# Altium integrated library ALTIUM-WE-PD-rev18b.IntLib: 278 symbols (part 3 of 4)
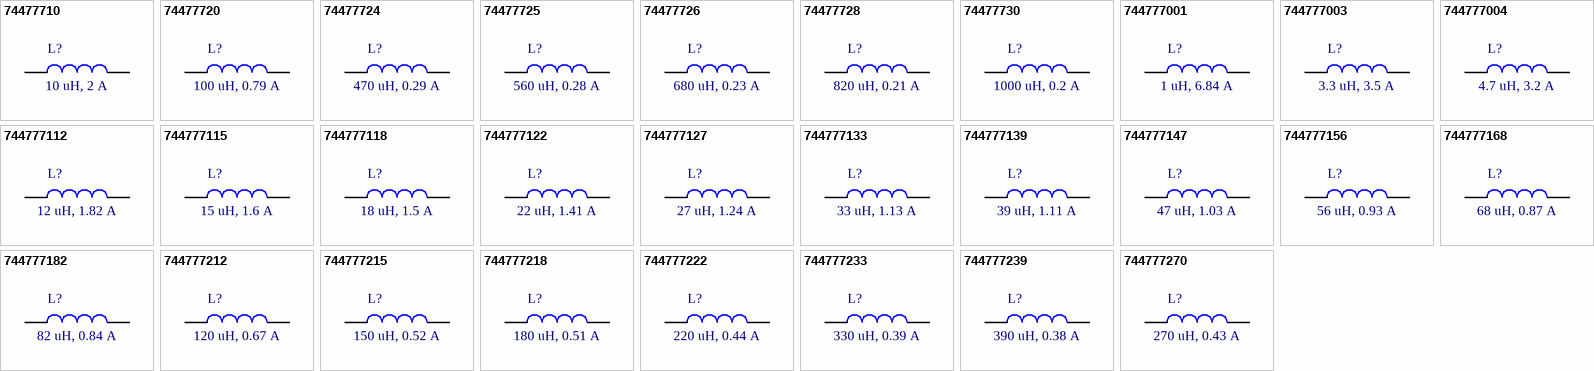
[diagram p15: symbols 74477710 to 744777270]

## 744777003
designator L?, comment 3.3 uH, 3.5 A
WE-PD SMT Shielded Power Inductor, size 7345, 3.3 uH, 3.5 A; Part Number: 744777003; Rated Current: 3.5 A; Inductance: 3.3 uH; DC Resistance max.: 0.03 Ohm; Self Resonant Frequency: 55 MHz; ComponentLink1Description: Manufacturer; ComponentLink1URL: http://www.we-online.de; ComponentLink2Description: Datasheet; ComponentLink2URL: https://katalog.we-online.de/pbs/datasheet/744777003.pdf; Published Date: September 2018; Publisher: Wurth Elektronik; Size: 7345; Operating Temperature: -40 to 125 degC; Mounting Technology: SMT; Packaging: Tape and Reel
footprint WE-PD_7345_Metal base
pins: 1, 2

## 744777004
designator L?, comment 4.7 uH, 3.2 A
WE-PD SMT Shielded Power Inductor, size 7345, 4.7 uH, 3.2 A; Part Number: 744777004; Rated Current: 3.2 A; Inductance: 4.7 uH; DC Resistance max.: 0.04 Ohm; Self Resonant Frequency: 37 MHz; ComponentLink1Description: Manufacturer; ComponentLink1URL: http://www.we-online.de; ComponentLink2Description: Datasheet; ComponentLink2URL: https://katalog.we-online.de/pbs/datasheet/744777004.pdf; Published Date: September 2018; Publisher: Wurth Elektronik; Size: 7345; Operating Temperature: -40 to 125 degC; Mounting Technology: SMT; Packaging: Tape and Reel
footprint WE-PD_7345_Metal base
pins: 1, 2

## 744777112
designator L?, comment 12 uH, 1.82 A
WE-PD SMT Shielded Power Inductor, size 7345, 12 uH, 1.82 A; Part Number: 744777112; Rated Current: 1.82 A; Inductance: 12 uH; DC Resistance max.: 0.058 Ohm; Self Resonant Frequency: 23 MHz; ComponentLink1Description: Manufacturer; ComponentLink1URL: http://www.we-online.de; ComponentLink2Description: Datasheet; ComponentLink2URL: https://katalog.we-online.de/pbs/datasheet/744777112.pdf; Published Date: September 2018; Publisher: Wurth Elektronik; Size: 7345; Operating Temperature: -40 to 125 degC; Mounting Technology: SMT; Packaging: Tape and Reel
footprint WE-PD_7345_Metal base
pins: 1, 2

## 744777115
designator L?, comment 15 uH, 1.6 A
WE-PD SMT Shielded Power Inductor, size 7345, 15 uH, 1.6 A; Part Number: 744777115; Rated Current: 1.6 A; Inductance: 15 uH; DC Resistance max.: 0.081 Ohm; Self Resonant Frequency: 19.5 MHz; ComponentLink1Description: Manufacturer; ComponentLink1URL: http://www.we-online.de; ComponentLink2Description: Datasheet; ComponentLink2URL: https://katalog.we-online.de/pbs/datasheet/744777115.pdf; Published Date: September 2018; Publisher: Wurth Elektronik; Size: 7345; Operating Temperature: -40 to 125 degC; Mounting Technology: SMT; Packaging: Tape and Reel
footprint WE-PD_7345_Metal base
pins: 1, 2

## 744777118
designator L?, comment 18 uH, 1.5 A
WE-PD SMT Shielded Power Inductor, size 7345, 18 uH, 1.5 A; Part Number: 744777118; Rated Current: 1.5 A; Inductance: 18 uH; DC Resistance max.: 0.091 Ohm; Self Resonant Frequency: 19 MHz; ComponentLink1Description: Manufacturer; ComponentLink1URL: http://www.we-online.de; ComponentLink2Description: Datasheet; ComponentLink2URL: https://katalog.we-online.de/pbs/datasheet/744777118.pdf; Published Date: September 2018; Publisher: Wurth Elektronik; Size: 7345; Operating Temperature: -40 to 125 degC; Mounting Technology: SMT; Packaging: Tape and Reel
footprint WE-PD_7345_Metal base
pins: 1, 2

## 744777122
designator L?, comment 22 uH, 1.41 A
WE-PD SMT Shielded Power Inductor, size 7345, 22 uH, 1.41 A; Part Number: 744777122; Rated Current: 1.41 A; Inductance: 22 uH; DC Resistance max.: 0.11 Ohm; Self Resonant Frequency: 17 MHz; ComponentLink1Description: Manufacturer; ComponentLink1URL: http://www.we-online.de; ComponentLink2Description: Datasheet; ComponentLink2URL: https://katalog.we-online.de/pbs/datasheet/744777122.pdf; Published Date: September 2018; Publisher: Wurth Elektronik; Size: 7345; Operating Temperature: -40 to 125 degC; Mounting Technology: SMT; Packaging: Tape and Reel
footprint WE-PD_7345_Metal base
pins: 1, 2

## 744777127
designator L?, comment 27 uH, 1.24 A
WE-PD SMT Shielded Power Inductor, size 7345, 27 uH, 1.24 A; Part Number: 744777127; Rated Current: 1.24 A; Inductance: 27 uH; DC Resistance max.: 0.15 Ohm; Self Resonant Frequency: 15 MHz; ComponentLink1Description: Manufacturer; ComponentLink1URL: http://www.we-online.de; ComponentLink2Description: Datasheet; ComponentLink2URL: https://katalog.we-online.de/pbs/datasheet/744777127.pdf; Published Date: September 2018; Publisher: Wurth Elektronik; Size: 7345; Operating Temperature: -40 to 125 degC; Mounting Technology: SMT; Packaging: Tape and Reel
footprint WE-PD_7345_Metal base
pins: 1, 2

## 744777133
designator L?, comment 33 uH, 1.13 A
WE-PD SMT Shielded Power Inductor, size 7345, 33 uH, 1.13 A; Part Number: 744777133; Rated Current: 1.13 A; Inductance: 33 uH; DC Resistance max.: 0.17 Ohm; Self Resonant Frequency: 13 MHz; ComponentLink1Description: Manufacturer; ComponentLink1URL: http://www.we-online.de; ComponentLink2Description: Datasheet; ComponentLink2URL: https://katalog.we-online.de/pbs/datasheet/744777133.pdf; Published Date: September 2018; Publisher: Wurth Elektronik; Size: 7345; Operating Temperature: -40 to 125 degC; Mounting Technology: SMT; Packaging: Tape and Reel
footprint WE-PD_7345_Metal base
pins: 1, 2

## 744777139
designator L?, comment 39 uH, 1.11 A
WE-PD SMT Shielded Power Inductor, size 7345, 39 uH, 1.11 A; Part Number: 744777139; Rated Current: 1.11 A; Inductance: 39 uH; DC Resistance max.: 0.23 Ohm; Self Resonant Frequency: 12 MHz; ComponentLink1Description: Manufacturer; ComponentLink1URL: http://www.we-online.de; ComponentLink2Description: Datasheet; ComponentLink2URL: https://katalog.we-online.de/pbs/datasheet/744777139.pdf; Published Date: September 2018; Publisher: Wurth Elektronik; Size: 7345; Operating Temperature: -40 to 125 degC; Mounting Technology: SMT; Packaging: Tape and Reel
footprint WE-PD_7345_Metal base
pins: 1, 2

## 744777147
designator L?, comment 47 uH, 1.03 A
WE-PD SMT Shielded Power Inductor, size 7345, 47 uH, 1.03 A; Part Number: 744777147; Rated Current: 1.03 A; Inductance: 47 uH; DC Resistance max.: 0.26 Ohm; Self Resonant Frequency: 10.5 MHz; ComponentLink1Description: Manufacturer; ComponentLink1URL: http://www.we-online.de; ComponentLink2Description: Datasheet; ComponentLink2URL: https://katalog.we-online.de/pbs/datasheet/744777147.pdf; Published Date: September 2018; Publisher: Wurth Elektronik; Size: 7345; Operating Temperature: -40 to 125 degC; Mounting Technology: SMT; Packaging: Tape and Reel
footprint WE-PD_7345_Metal base
pins: 1, 2

## 744777156
designator L?, comment 56 uH, 0.93 A
WE-PD SMT Shielded Power Inductor, size 7345, 56 uH, 0.93 A; Part Number: 744777156; Rated Current: 0.93 A; Inductance: 56 uH; DC Resistance max.: 0.35 Ohm; Self Resonant Frequency: 10 MHz; ComponentLink1Description: Manufacturer; ComponentLink1URL: http://www.we-online.de; ComponentLink2Description: Datasheet; ComponentLink2URL: https://katalog.we-online.de/pbs/datasheet/744777156.pdf; Published Date: September 2018; Publisher: Wurth Elektronik; Size: 7345; Operating Temperature: -40 to 125 degC; Mounting Technology: SMT; Packaging: Tape and Reel
footprint WE-PD_7345_Metal base
pins: 1, 2

## 744777168
designator L?, comment 68 uH, 0.87 A
WE-PD SMT Shielded Power Inductor, size 7345, 68 uH, 0.87 A; Part Number: 744777168; Rated Current: 0.87 A; Inductance: 68 uH; DC Resistance max.: 0.38 Ohm; Self Resonant Frequency: 9 MHz; ComponentLink1Description: Manufacturer; ComponentLink1URL: http://www.we-online.de; ComponentLink2Description: Datasheet; ComponentLink2URL: https://katalog.we-online.de/pbs/datasheet/744777168.pdf; Published Date: September 2018; Publisher: Wurth Elektronik; Size: 7345; Operating Temperature: -40 to 125 degC; Mounting Technology: SMT; Packaging: Tape and Reel
footprint WE-PD_7345_Metal base
pins: 1, 2

## 744777182
designator L?, comment 82 uH, 0.84 A
WE-PD SMT Shielded Power Inductor, size 7345, 82 uH, 0.84 A; Part Number: 744777182; Rated Current: 0.84 A; Inductance: 82 uH; DC Resistance max.: 0.43 Ohm; Self Resonant Frequency: 8 MHz; ComponentLink1Description: Manufacturer; ComponentLink1URL: http://www.we-online.de; ComponentLink2Description: Datasheet; ComponentLink2URL: https://katalog.we-online.de/pbs/datasheet/744777182.pdf; Published Date: September 2018; Publisher: Wurth Elektronik; Size: 7345; Operating Temperature: -40 to 125 degC; Mounting Technology: SMT; Packaging: Tape and Reel
footprint WE-PD_7345_Metal base
pins: 1, 2

## 744777212
designator L?, comment 120 uH, 0.67 A
WE-PD SMT Shielded Power Inductor, size 7345, 120 uH, 0.67 A; Part Number: 744777212; Rated Current: 0.67 A; Inductance: 120 uH; DC Resistance max.: 0.66 Ohm; Self Resonant Frequency: 6.7 MHz; ComponentLink1Description: Manufacturer; ComponentLink1URL: http://www.we-online.de; ComponentLink2Description: Datasheet; ComponentLink2URL: https://katalog.we-online.de/pbs/datasheet/744777212.pdf; Published Date: September 2018; Publisher: Wurth Elektronik; Size: 7345; Operating Temperature: -40 to 125 degC; Mounting Technology: SMT; Packaging: Tape and Reel
footprint WE-PD_7345_Metal base
pins: 1, 2

## 744777215
designator L?, comment 150 uH, 0.52 A
WE-PD SMT Shielded Power Inductor, size 7345, 150 uH, 0.52 A; Part Number: 744777215; Rated Current: 0.52 A; Inductance: 150 uH; DC Resistance max.: 0.88 Ohm; Self Resonant Frequency: 6 MHz; ComponentLink1Description: Manufacturer; ComponentLink1URL: http://www.we-online.de; ComponentLink2Description: Datasheet; ComponentLink2URL: https://katalog.we-online.de/pbs/datasheet/744777215.pdf; Published Date: September 2018; Publisher: Wurth Elektronik; Size: 7345; Operating Temperature: -40 to 125 degC; Mounting Technology: SMT; Packaging: Tape and Reel
footprint WE-PD_7345_Metal base
pins: 1, 2

## 744777218
designator L?, comment 180 uH, 0.51 A
WE-PD SMT Shielded Power Inductor, size 7345, 180 uH, 0.51 A; Part Number: 744777218; Rated Current: 0.51 A; Inductance: 180 uH; DC Resistance max.: 0.98 Ohm; Self Resonant Frequency: 5.3 MHz; ComponentLink1Description: Manufacturer; ComponentLink1URL: http://www.we-online.de; ComponentLink2Description: Datasheet; ComponentLink2URL: https://katalog.we-online.de/pbs/datasheet/744777218.pdf; Published Date: September 2018; Publisher: Wurth Elektronik; Size: 7345; Operating Temperature: -40 to 125 degC; Mounting Technology: SMT; Packaging: Tape and Reel
footprint WE-PD_7345_Metal base
pins: 1, 2

## 744777222
designator L?, comment 220 uH, 0.44 A
WE-PD SMT Shielded Power Inductor, size 7345, 220 uH, 0.44 A; Part Number: 744777222; Rated Current: 0.44 A; Inductance: 220 uH; DC Resistance max.: 1.17 Ohm; Self Resonant Frequency: 5 MHz; ComponentLink1Description: Manufacturer; ComponentLink1URL: http://www.we-online.de; ComponentLink2Description: Datasheet; ComponentLink2URL: https://katalog.we-online.de/pbs/datasheet/744777222.pdf; Published Date: September 2018; Publisher: Wurth Elektronik; Size: 7345; Operating Temperature: -40 to 125 degC; Mounting Technology: SMT; Packaging: Tape and Reel
footprint WE-PD_7345_Metal base
pins: 1, 2

## 744777233
designator L?, comment 330 uH, 0.39 A
WE-PD SMT Shielded Power Inductor, size 7345, 330 uH, 0.39 A; Part Number: 744777233; Rated Current: 0.39 A; Inductance: 330 uH; DC Resistance max.: 1.86 Ohm; Self Resonant Frequency: 4 MHz; ComponentLink1Description: Manufacturer; ComponentLink1URL: http://www.we-online.de; ComponentLink2Description: Datasheet; ComponentLink2URL: https://katalog.we-online.de/pbs/datasheet/744777233.pdf; Published Date: September 2018; Publisher: Wurth Elektronik; Size: 7345; Operating Temperature: -40 to 125 degC; Mounting Technology: SMT; Packaging: Tape and Reel
footprint WE-PD_7345_Metal base
pins: 1, 2

## 744777239
designator L?, comment 390 uH, 0.38 A
WE-PD SMT Shielded Power Inductor, size 7345, 390 uH, 0.38 A; Part Number: 744777239; Rated Current: 0.38 A; Inductance: 390 uH; DC Resistance max.: 2.85 Ohm; Self Resonant Frequency: 3.8 MHz; ComponentLink1Description: Manufacturer; ComponentLink1URL: http://www.we-online.de; ComponentLink2Description: Datasheet; ComponentLink2URL: https://katalog.we-online.de/pbs/datasheet/744777239.pdf; Published Date: September 2018; Publisher: Wurth Elektronik; Size: 7345; Operating Temperature: -40 to 125 degC; Mounting Technology: SMT; Packaging: Tape and Reel
footprint WE-PD_7345_Metal base
pins: 1, 2

## 744777270
designator L?, comment 270 uH, 0.43 A
WE-PD SMT Shielded Power Inductor, size 7345, 270 uH, 0.43 A; Part Number: 744777270; Rated Current: 0.43 A; Inductance: 270 uH; DC Resistance max.: 1.64 Ohm; Self Resonant Frequency: 4.3 MHz; ComponentLink1Description: Manufacturer; ComponentLink1URL: http://www.we-online.de; ComponentLink2Description: Datasheet; ComponentLink2URL: https://katalog.we-online.de/pbs/datasheet/744777270.pdf; Published Date: September 2018; Publisher: Wurth Elektronik; Size: 7345; Operating Temperature: -40 to 125 degC; Mounting Technology: SMT; Packaging: Tape and Reel
footprint WE-PD_7345_Metal base
pins: 1, 2


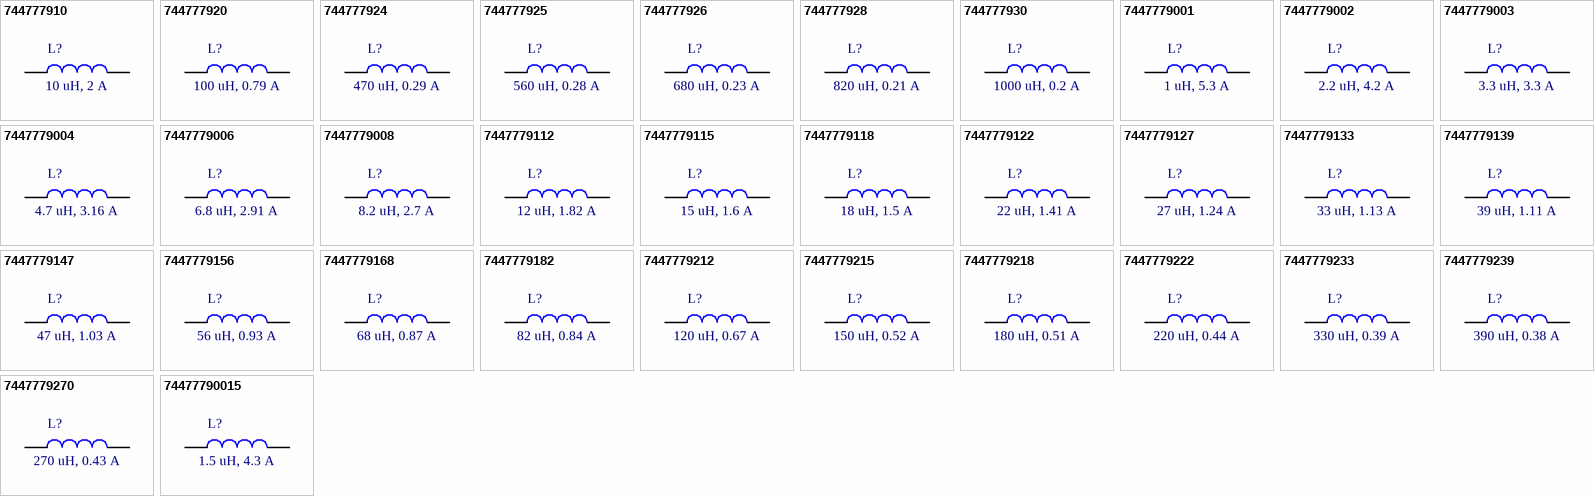
[diagram p8: symbols 744777910 to 74477790015]

## 744777910
designator L?, comment 10 uH, 2 A
WE-PD SMT Shielded Power Inductor, size 7345, 10 uH, 2 A; Part Number: 744777910; Rated Current: 2 A; Inductance: 10 uH; DC Resistance max.: 0.049 Ohm; Self Resonant Frequency: 26 MHz; ComponentLink1Description: Manufacturer; ComponentLink1URL: http://www.we-online.de; ComponentLink2Description: Datasheet; ComponentLink2URL: https://katalog.we-online.de/pbs/datasheet/744777910.pdf; Published Date: September 2018; Publisher: Wurth Elektronik; Size: 7345; Operating Temperature: -40 to 125 degC; Mounting Technology: SMT; Packaging: Tape and Reel
footprint WE-PD_7345_Plastic base
pins: 1, 2

## 744777920
designator L?, comment 100 uH, 0.79 A
WE-PD SMT Shielded Power Inductor, size 7345, 100 uH, 0.79 A; Part Number: 744777920; Rated Current: 0.79 A; Inductance: 100 uH; DC Resistance max.: 0.61 Ohm; Self Resonant Frequency: 7.5 MHz; ComponentLink1Description: Manufacturer; ComponentLink1URL: http://www.we-online.de; ComponentLink2Description: Datasheet; ComponentLink2URL: https://katalog.we-online.de/pbs/datasheet/744777920.pdf; Published Date: September 2018; Publisher: Wurth Elektronik; Size: 7345; Operating Temperature: -40 to 125 degC; Mounting Technology: SMT; Packaging: Tape and Reel
footprint WE-PD_7345_Plastic base
pins: 1, 2

## 744777924
designator L?, comment 470 uH, 0.29 A
WE-PD SMT Shielded Power Inductor, size 7345, 470 uH, 0.29 A; Part Number: 744777924; Rated Current: 0.29 A; Inductance: 470 uH; DC Resistance max.: 3.01 Ohm; Self Resonant Frequency: 3.2 MHz; ComponentLink1Description: Manufacturer; ComponentLink1URL: http://www.we-online.de; ComponentLink2Description: Datasheet; ComponentLink2URL: https://katalog.we-online.de/pbs/datasheet/744777924.pdf; Published Date: September 2018; Publisher: Wurth Elektronik; Size: 7345; Operating Temperature: -40 to 125 degC; Mounting Technology: SMT; Packaging: Tape and Reel
footprint WE-PD_7345_Plastic base
pins: 1, 2

## 744777925
designator L?, comment 560 uH, 0.28 A
WE-PD SMT Shielded Power Inductor, size 7345, 560 uH, 0.28 A; Part Number: 744777925; Rated Current: 0.28 A; Inductance: 560 uH; DC Resistance max.: 3.62 Ohm; Self Resonant Frequency: 3 MHz; ComponentLink1Description: Manufacturer; ComponentLink1URL: http://www.we-online.de; ComponentLink2Description: Datasheet; ComponentLink2URL: https://katalog.we-online.de/pbs/datasheet/744777925.pdf; Published Date: September 2018; Publisher: Wurth Elektronik; Size: 7345; Operating Temperature: -40 to 125 degC; Mounting Technology: SMT; Packaging: Tape and Reel
footprint WE-PD_7345_Plastic base
pins: 1, 2

## 744777926
designator L?, comment 680 uH, 0.23 A
WE-PD SMT Shielded Power Inductor, size 7345, 680 uH, 0.23 A; Part Number: 744777926; Rated Current: 0.23 A; Inductance: 680 uH; DC Resistance max.: 4.63 Ohm; Self Resonant Frequency: 2.7 MHz; ComponentLink1Description: Manufacturer; ComponentLink1URL: http://www.we-online.de; ComponentLink2Description: Datasheet; ComponentLink2URL: https://katalog.we-online.de/pbs/datasheet/744777926.pdf; Published Date: September 2018; Publisher: Wurth Elektronik; Size: 7345; Operating Temperature: -40 to 125 degC; Mounting Technology: SMT; Packaging: Tape and Reel
footprint WE-PD_7345_Plastic base
pins: 1, 2

## 744777928
designator L?, comment 820 uH, 0.21 A
WE-PD SMT Shielded Power Inductor, size 7345, 820 uH, 0.21 A; Part Number: 744777928; Rated Current: 0.21 A; Inductance: 820 uH; DC Resistance max.: 5.2 Ohm; Self Resonant Frequency: 2.5 MHz; ComponentLink1Description: Manufacturer; ComponentLink1URL: http://www.we-online.de; ComponentLink2Description: Datasheet; ComponentLink2URL: https://katalog.we-online.de/pbs/datasheet/744777928.pdf; Published Date: September 2018; Publisher: Wurth Elektronik; Size: 7345; Operating Temperature: -40 to 125 degC; Mounting Technology: SMT; Packaging: Tape and Reel
footprint WE-PD_7345_Plastic base
pins: 1, 2

## 744777930
designator L?, comment 1000 uH, 0.2 A
WE-PD SMT Shielded Power Inductor, size 7345, 1000 uH, 0.2 A; Part Number: 744777930; Rated Current: 0.2 A; Inductance: 1000 uH; DC Resistance max.: 6 Ohm; Self Resonant Frequency: 2.2 MHz; ComponentLink1Description: Manufacturer; ComponentLink1URL: http://www.we-online.de; ComponentLink2Description: Datasheet; ComponentLink2URL: https://katalog.we-online.de/pbs/datasheet/744777930.pdf; Published Date: September 2018; Publisher: Wurth Elektronik; Size: 7345; Operating Temperature: -40 to 125 degC; Mounting Technology: SMT; Packaging: Tape and Reel
footprint WE-PD_7345_Plastic base
pins: 1, 2

## 7447779001
designator L?, comment 1 uH, 5.3 A
WE-PD SMT Shielded Power Inductor, size 7345, 1 uH, 5.3 A; Part Number: 7447779001; Rated Current: 5.3 A; Inductance: 1 uH; DC Resistance max.: 0.015 Ohm; Self Resonant Frequency: 100 MHz; ComponentLink1Description: Manufacturer; ComponentLink1URL: http://www.we-online.de; ComponentLink2Description: Datasheet; ComponentLink2URL: https://katalog.we-online.de/pbs/datasheet/7447779001.pdf; Published Date: September 2018; Publisher: Wurth Elektronik; Size: 7345; Operating Temperature: -40 to 125 degC; Mounting Technology: SMT; Packaging: Tape and Reel
footprint WE-PD_7345_Plastic base
pins: 1, 2

## 7447779002
designator L?, comment 2.2 uH, 4.2 A
WE-PD SMT Shielded Power Inductor, size 7345, 2.2 uH, 4.2 A; Part Number: 7447779002; Rated Current: 4.2 A; Inductance: 2.2 uH; DC Resistance max.: 0.02 Ohm; Self Resonant Frequency: 60 MHz; ComponentLink1Description: Manufacturer; ComponentLink1URL: http://www.we-online.de; ComponentLink2Description: Datasheet; ComponentLink2URL: https://katalog.we-online.de/pbs/datasheet/7447779002.pdf; Published Date: September 2018; Publisher: Wurth Elektronik; Size: 7345; Operating Temperature: -40 to 125 degC; Mounting Technology: SMT; Packaging: Tape and Reel
footprint WE-PD_7345_Plastic base
pins: 1, 2

## 7447779003
designator L?, comment 3.3 uH, 3.3 A
WE-PD SMT Shielded Power Inductor, size 7345, 3.3 uH, 3.3 A; Part Number: 7447779003; Rated Current: 3.3 A; Inductance: 3.3 uH; DC Resistance max.: 0.03 Ohm; Self Resonant Frequency: 55 MHz; ComponentLink1Description: Manufacturer; ComponentLink1URL: http://www.we-online.de; ComponentLink2Description: Datasheet; ComponentLink2URL: https://katalog.we-online.de/pbs/datasheet/7447779003.pdf; Published Date: September 2018; Publisher: Wurth Elektronik; Size: 7345; Operating Temperature: -40 to 125 degC; Mounting Technology: SMT; Packaging: Tape and Reel
footprint WE-PD_7345_Plastic base
pins: 1, 2

## 7447779004
designator L?, comment 4.7 uH, 3.16 A
WE-PD SMT Shielded Power Inductor, size 7345, 4.7 uH, 3.16 A; Part Number: 7447779004; Rated Current: 3.16 A; Inductance: 4.7 uH; DC Resistance max.: 0.032 Ohm; Self Resonant Frequency: 37 MHz; ComponentLink1Description: Manufacturer; ComponentLink1URL: http://www.we-online.de; ComponentLink2Description: Datasheet; ComponentLink2URL: https://katalog.we-online.de/pbs/datasheet/7447779004.pdf; Published Date: September 2018; Publisher: Wurth Elektronik; Size: 7345; Operating Temperature: -40 to 125 degC; Mounting Technology: SMT; Packaging: Tape and Reel
footprint WE-PD_7345_Plastic base
pins: 1, 2

## 7447779006
designator L?, comment 6.8 uH, 2.91 A
WE-PD SMT Shielded Power Inductor, size 7345, 6.8 uH, 2.91 A; Part Number: 7447779006; Rated Current: 2.91 A; Inductance: 6.8 uH; DC Resistance max.: 0.035 Ohm; Self Resonant Frequency: 32 MHz; ComponentLink1Description: Manufacturer; ComponentLink1URL: http://www.we-online.de; ComponentLink2Description: Datasheet; ComponentLink2URL: https://katalog.we-online.de/pbs/datasheet/7447779006.pdf; Published Date: September 2018; Publisher: Wurth Elektronik; Size: 7345; Operating Temperature: -40 to 125 degC; Mounting Technology: SMT; Packaging: Tape and Reel
footprint WE-PD_7345_Plastic base
pins: 1, 2

## 7447779008
designator L?, comment 8.2 uH, 2.7 A
WE-PD SMT Shielded Power Inductor, size 7345, 8.2 uH, 2.7 A; Part Number: 7447779008; Rated Current: 2.7 A; Inductance: 8.2 uH; DC Resistance max.: 0.053 Ohm; Self Resonant Frequency: 28 MHz; ComponentLink1Description: Manufacturer; ComponentLink1URL: http://www.we-online.de; ComponentLink2Description: Datasheet; ComponentLink2URL: https://katalog.we-online.de/pbs/datasheet/7447779008.pdf; Published Date: September 2018; Publisher: Wurth Elektronik; Size: 7345; Operating Temperature: -40 to 125 degC; Mounting Technology: SMT; Packaging: Tape and Reel
footprint WE-PD_7345_Plastic base
pins: 1, 2

## 7447779112
designator L?, comment 12 uH, 1.82 A
WE-PD SMT Shielded Power Inductor, size 7345, 12 uH, 1.82 A; Part Number: 7447779112; Rated Current: 1.82 A; Inductance: 12 uH; DC Resistance max.: 0.058 Ohm; Self Resonant Frequency: 23 MHz; ComponentLink1Description: Manufacturer; ComponentLink1URL: http://www.we-online.de; ComponentLink2Description: Datasheet; ComponentLink2URL: https://katalog.we-online.de/pbs/datasheet/7447779112.pdf; Published Date: September 2018; Publisher: Wurth Elektronik; Size: 7345; Operating Temperature: -40 to 125 degC; Mounting Technology: SMT; Packaging: Tape and Reel
footprint WE-PD_7345_Plastic base
pins: 1, 2

## 7447779115
designator L?, comment 15 uH, 1.6 A
WE-PD SMT Shielded Power Inductor, size 7345, 15 uH, 1.6 A; Part Number: 7447779115; Rated Current: 1.6 A; Inductance: 15 uH; DC Resistance max.: 0.081 Ohm; Self Resonant Frequency: 19.5 MHz; ComponentLink1Description: Manufacturer; ComponentLink1URL: http://www.we-online.de; ComponentLink2Description: Datasheet; ComponentLink2URL: https://katalog.we-online.de/pbs/datasheet/7447779115.pdf; Published Date: September 2018; Publisher: Wurth Elektronik; Size: 7345; Operating Temperature: -40 to 125 degC; Mounting Technology: SMT; Packaging: Tape and Reel
footprint WE-PD_7345_Plastic base
pins: 1, 2

## 7447779118
designator L?, comment 18 uH, 1.5 A
WE-PD SMT Shielded Power Inductor, size 7345, 18 uH, 1.5 A; Part Number: 7447779118; Rated Current: 1.5 A; Inductance: 18 uH; DC Resistance max.: 0.091 Ohm; Self Resonant Frequency: 19 MHz; ComponentLink1Description: Manufacturer; ComponentLink1URL: http://www.we-online.de; ComponentLink2Description: Datasheet; ComponentLink2URL: https://katalog.we-online.de/pbs/datasheet/7447779118.pdf; Published Date: September 2018; Publisher: Wurth Elektronik; Size: 7345; Operating Temperature: -40 to 125 degC; Mounting Technology: SMT; Packaging: Tape and Reel
footprint WE-PD_7345_Plastic base
pins: 1, 2

## 7447779122
designator L?, comment 22 uH, 1.41 A
WE-PD SMT Shielded Power Inductor, size 7345, 22 uH, 1.41 A; Part Number: 7447779122; Rated Current: 1.41 A; Inductance: 22 uH; DC Resistance max.: 0.11 Ohm; Self Resonant Frequency: 17 MHz; ComponentLink1Description: Manufacturer; ComponentLink1URL: http://www.we-online.de; ComponentLink2Description: Datasheet; ComponentLink2URL: https://katalog.we-online.de/pbs/datasheet/7447779122.pdf; Published Date: September 2018; Publisher: Wurth Elektronik; Size: 7345; Operating Temperature: -40 to 125 degC; Mounting Technology: SMT; Packaging: Tape and Reel
footprint WE-PD_7345_Plastic base
pins: 1, 2

## 7447779127
designator L?, comment 27 uH, 1.24 A
WE-PD SMT Shielded Power Inductor, size 7345, 27 uH, 1.24 A; Part Number: 7447779127; Rated Current: 1.24 A; Inductance: 27 uH; DC Resistance max.: 0.15 Ohm; Self Resonant Frequency: 15 MHz; ComponentLink1Description: Manufacturer; ComponentLink1URL: http://www.we-online.de; ComponentLink2Description: Datasheet; ComponentLink2URL: https://katalog.we-online.de/pbs/datasheet/7447779127.pdf; Published Date: September 2018; Publisher: Wurth Elektronik; Size: 7345; Operating Temperature: -40 to 125 degC; Mounting Technology: SMT; Packaging: Tape and Reel
footprint WE-PD_7345_Plastic base
pins: 1, 2

## 7447779133
designator L?, comment 33 uH, 1.13 A
WE-PD SMT Shielded Power Inductor, size 7345, 33 uH, 1.13 A; Part Number: 7447779133; Rated Current: 1.13 A; Inductance: 33 uH; DC Resistance max.: 0.17 Ohm; Self Resonant Frequency: 13 MHz; ComponentLink1Description: Manufacturer; ComponentLink1URL: http://www.we-online.de; ComponentLink2Description: Datasheet; ComponentLink2URL: https://katalog.we-online.de/pbs/datasheet/7447779133.pdf; Published Date: September 2018; Publisher: Wurth Elektronik; Size: 7345; Operating Temperature: -40 to 125 degC; Mounting Technology: SMT; Packaging: Tape and Reel
footprint WE-PD_7345_Plastic base
pins: 1, 2

## 7447779139
designator L?, comment 39 uH, 1.11 A
WE-PD SMT Shielded Power Inductor, size 7345, 39 uH, 1.11 A; Part Number: 7447779139; Rated Current: 1.11 A; Inductance: 39 uH; DC Resistance max.: 0.23 Ohm; Self Resonant Frequency: 12 MHz; ComponentLink1Description: Manufacturer; ComponentLink1URL: http://www.we-online.de; ComponentLink2Description: Datasheet; ComponentLink2URL: https://katalog.we-online.de/pbs/datasheet/7447779139.pdf; Published Date: September 2018; Publisher: Wurth Elektronik; Size: 7345; Operating Temperature: -40 to 125 degC; Mounting Technology: SMT; Packaging: Tape and Reel
footprint WE-PD_7345_Plastic base
pins: 1, 2

## 7447779147
designator L?, comment 47 uH, 1.03 A
WE-PD SMT Shielded Power Inductor, size 7345, 47 uH, 1.03 A; Part Number: 7447779147; Rated Current: 1.03 A; Inductance: 47 uH; DC Resistance max.: 0.26 Ohm; Self Resonant Frequency: 10.5 MHz; ComponentLink1Description: Manufacturer; ComponentLink1URL: http://www.we-online.de; ComponentLink2Description: Datasheet; ComponentLink2URL: https://katalog.we-online.de/pbs/datasheet/7447779147.pdf; Published Date: September 2018; Publisher: Wurth Elektronik; Size: 7345; Operating Temperature: -40 to 125 degC; Mounting Technology: SMT; Packaging: Tape and Reel
footprint WE-PD_7345_Plastic base
pins: 1, 2

## 7447779156
designator L?, comment 56 uH, 0.93 A
WE-PD SMT Shielded Power Inductor, size 7345, 56 uH, 0.93 A; Part Number: 7447779156; Rated Current: 0.93 A; Inductance: 56 uH; DC Resistance max.: 0.35 Ohm; Self Resonant Frequency: 10 MHz; ComponentLink1Description: Manufacturer; ComponentLink1URL: http://www.we-online.de; ComponentLink2Description: Datasheet; ComponentLink2URL: https://katalog.we-online.de/pbs/datasheet/7447779156.pdf; Published Date: September 2018; Publisher: Wurth Elektronik; Size: 7345; Operating Temperature: -40 to 125 degC; Mounting Technology: SMT; Packaging: Tape and Reel
footprint WE-PD_7345_Plastic base
pins: 1, 2

## 7447779168
designator L?, comment 68 uH, 0.87 A
WE-PD SMT Shielded Power Inductor, size 7345, 68 uH, 0.87 A; Part Number: 7447779168; Rated Current: 0.87 A; Inductance: 68 uH; DC Resistance max.: 0.38 Ohm; Self Resonant Frequency: 9 MHz; ComponentLink1Description: Manufacturer; ComponentLink1URL: http://www.we-online.de; ComponentLink2Description: Datasheet; ComponentLink2URL: https://katalog.we-online.de/pbs/datasheet/7447779168.pdf; Published Date: September 2018; Publisher: Wurth Elektronik; Size: 7345; Operating Temperature: -40 to 125 degC; Mounting Technology: SMT; Packaging: Tape and Reel
footprint WE-PD_7345_Plastic base
pins: 1, 2

## 7447779182
designator L?, comment 82 uH, 0.84 A
WE-PD SMT Shielded Power Inductor, size 7345, 82 uH, 0.84 A; Part Number: 7447779182; Rated Current: 0.84 A; Inductance: 82 uH; DC Resistance max.: 0.43 Ohm; Self Resonant Frequency: 8 MHz; ComponentLink1Description: Manufacturer; ComponentLink1URL: http://www.we-online.de; ComponentLink2Description: Datasheet; ComponentLink2URL: https://katalog.we-online.de/pbs/datasheet/7447779182.pdf; Published Date: September 2018; Publisher: Wurth Elektronik; Size: 7345; Operating Temperature: -40 to 125 degC; Mounting Technology: SMT; Packaging: Tape and Reel
footprint WE-PD_7345_Plastic base
pins: 1, 2

## 7447779212
designator L?, comment 120 uH, 0.67 A
WE-PD SMT Shielded Power Inductor, size 7345, 120 uH, 0.67 A; Part Number: 7447779212; Rated Current: 0.67 A; Inductance: 120 uH; DC Resistance max.: 0.66 Ohm; Self Resonant Frequency: 6.7 MHz; ComponentLink1Description: Manufacturer; ComponentLink1URL: http://www.we-online.de; ComponentLink2Description: Datasheet; ComponentLink2URL: https://katalog.we-online.de/pbs/datasheet/7447779212.pdf; Published Date: September 2018; Publisher: Wurth Elektronik; Size: 7345; Operating Temperature: -40 to 125 degC; Mounting Technology: SMT; Packaging: Tape and Reel
footprint WE-PD_7345_Plastic base
pins: 1, 2

## 7447779215
designator L?, comment 150 uH, 0.52 A
WE-PD SMT Shielded Power Inductor, size 7345, 150 uH, 0.52 A; Part Number: 7447779215; Rated Current: 0.52 A; Inductance: 150 uH; DC Resistance max.: 0.88 Ohm; Self Resonant Frequency: 6 MHz; ComponentLink1Description: Manufacturer; ComponentLink1URL: http://www.we-online.de; ComponentLink2Description: Datasheet; ComponentLink2URL: https://katalog.we-online.de/pbs/datasheet/7447779215.pdf; Published Date: September 2018; Publisher: Wurth Elektronik; Size: 7345; Operating Temperature: -40 to 125 degC; Mounting Technology: SMT; Packaging: Tape and Reel
footprint WE-PD_7345_Plastic base
pins: 1, 2

## 7447779218
designator L?, comment 180 uH, 0.51 A
WE-PD SMT Shielded Power Inductor, size 7345, 180 uH, 0.51 A; Part Number: 7447779218; Rated Current: 0.51 A; Inductance: 180 uH; DC Resistance max.: 0.98 Ohm; Self Resonant Frequency: 5.3 MHz; ComponentLink1Description: Manufacturer; ComponentLink1URL: http://www.we-online.de; ComponentLink2Description: Datasheet; ComponentLink2URL: https://katalog.we-online.de/pbs/datasheet/7447779218.pdf; Published Date: September 2018; Publisher: Wurth Elektronik; Size: 7345; Operating Temperature: -40 to 125 degC; Mounting Technology: SMT; Packaging: Tape and Reel
footprint WE-PD_7345_Plastic base
pins: 1, 2

## 7447779222
designator L?, comment 220 uH, 0.44 A
WE-PD SMT Shielded Power Inductor, size 7345, 220 uH, 0.44 A; Part Number: 7447779222; Rated Current: 0.44 A; Inductance: 220 uH; DC Resistance max.: 1.17 Ohm; Self Resonant Frequency: 5 MHz; ComponentLink1Description: Manufacturer; ComponentLink1URL: http://www.we-online.de; ComponentLink2Description: Datasheet; ComponentLink2URL: https://katalog.we-online.de/pbs/datasheet/7447779222.pdf; Published Date: September 2018; Publisher: Wurth Elektronik; Size: 7345; Operating Temperature: -40 to 125 degC; Mounting Technology: SMT; Packaging: Tape and Reel
footprint WE-PD_7345_Plastic base
pins: 1, 2

## 7447779233
designator L?, comment 330 uH, 0.39 A
WE-PD SMT Shielded Power Inductor, size 7345, 330 uH, 0.39 A; Part Number: 7447779233; Rated Current: 0.39 A; Inductance: 330 uH; DC Resistance max.: 1.86 Ohm; Self Resonant Frequency: 4 MHz; ComponentLink1Description: Manufacturer; ComponentLink1URL: http://www.we-online.de; ComponentLink2Description: Datasheet; ComponentLink2URL: https://katalog.we-online.de/pbs/datasheet/7447779233.pdf; Published Date: September 2018; Publisher: Wurth Elektronik; Size: 7345; Operating Temperature: -40 to 125 degC; Mounting Technology: SMT; Packaging: Tape and Reel
footprint WE-PD_7345_Plastic base
pins: 1, 2

## 7447779239
designator L?, comment 390 uH, 0.38 A
WE-PD SMT Shielded Power Inductor, size 7345, 390 uH, 0.38 A; Part Number: 7447779239; Rated Current: 0.38 A; Inductance: 390 uH; DC Resistance max.: 2.85 Ohm; Self Resonant Frequency: 3.8 MHz; ComponentLink1Description: Manufacturer; ComponentLink1URL: http://www.we-online.de; ComponentLink2Description: Datasheet; ComponentLink2URL: https://katalog.we-online.de/pbs/datasheet/7447779239.pdf; Published Date: September 2018; Publisher: Wurth Elektronik; Size: 7345; Operating Temperature: -40 to 125 degC; Mounting Technology: SMT; Packaging: Tape and Reel
footprint WE-PD_7345_Plastic base
pins: 1, 2

## 7447779270
designator L?, comment 270 uH, 0.43 A
WE-PD SMT Shielded Power Inductor, size 7345, 270 uH, 0.43 A; Part Number: 7447779270; Rated Current: 0.43 A; Inductance: 270 uH; DC Resistance max.: 1.64 Ohm; Self Resonant Frequency: 4.3 MHz; ComponentLink1Description: Manufacturer; ComponentLink1URL: http://www.we-online.de; ComponentLink2Description: Datasheet; ComponentLink2URL: https://katalog.we-online.de/pbs/datasheet/7447779270.pdf; Published Date: September 2018; Publisher: Wurth Elektronik; Size: 7345; Operating Temperature: -40 to 125 degC; Mounting Technology: SMT; Packaging: Tape and Reel
footprint WE-PD_7345_Plastic base
pins: 1, 2

## 74477790015
designator L?, comment 1.5 uH, 4.3 A
WE-PD SMT Shielded Power Inductor, size 7345, 1.5 uH, 4.3 A; Part Number: 74477790015; Rated Current: 4.3 A; Inductance: 1.5 uH; DC Resistance max.: 0.018 Ohm; Self Resonant Frequency: 75 MHz; ComponentLink1Description: Manufacturer; ComponentLink1URL: http://www.we-online.de; ComponentLink2Description: Datasheet; ComponentLink2URL: https://katalog.we-online.de/pbs/datasheet/74477790015.pdf; Published Date: September 2018; Publisher: Wurth Elektronik; Size: 7345; Operating Temperature: -40 to 125 degC; Mounting Technology: SMT; Packaging: Tape and Reel
footprint WE-PD_7345_Plastic base
pins: 1, 2


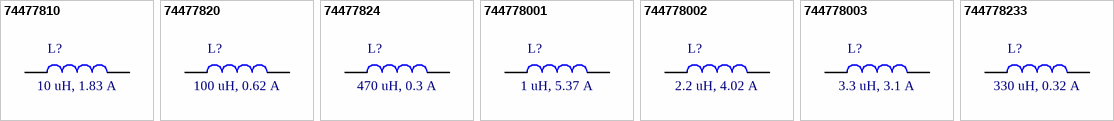
[diagram p9: symbols 74477810 to 744778233]

## 74477810
designator L?, comment 10 uH, 1.83 A
WE-PD SMT Shielded Power Inductor, size 7332, 10 uH, 1.83 A; Part Number: 74477810; Rated Current: 1.83 A; Inductance: 10 uH; DC Resistance max.: 0.072 Ohm; Self Resonant Frequency: 32 MHz; ComponentLink1Description: Manufacturer; ComponentLink1URL: http://www.we-online.de; ComponentLink2Description: Datasheet; ComponentLink2URL: https://katalog.we-online.de/pbs/datasheet/74477810.pdf; Published Date: September 2018; Publisher: Wurth Elektronik; Size: 7332; Operating Temperature: -40 to 125 degC; Mounting Technology: SMT; Packaging: Tape and Reel
footprint WE-PD_7332_Metal base
pins: 1, 2

## 74477820
designator L?, comment 100 uH, 0.62 A
WE-PD SMT Shielded Power Inductor, size 7332, 100 uH, 0.62 A; Part Number: 74477820; Rated Current: 0.62 A; Inductance: 100 uH; DC Resistance max.: 0.79 Ohm; Self Resonant Frequency: 9 MHz; ComponentLink1Description: Manufacturer; ComponentLink1URL: http://www.we-online.de; ComponentLink2Description: Datasheet; ComponentLink2URL: https://katalog.we-online.de/pbs/datasheet/74477820.pdf; Published Date: September 2018; Publisher: Wurth Elektronik; Size: 7332; Operating Temperature: -40 to 125 degC; Mounting Technology: SMT; Packaging: Tape and Reel
footprint WE-PD_7332_Metal base
pins: 1, 2

## 74477824
designator L?, comment 470 uH, 0.3 A
WE-PD SMT Shielded Power Inductor, size 7332, 470 uH, 0.3 A; Part Number: 74477824; Rated Current: 0.3 A; Inductance: 470 uH; DC Resistance max.: 4.18 Ohm; Self Resonant Frequency: 4 MHz; ComponentLink1Description: Manufacturer; ComponentLink1URL: http://www.we-online.de; ComponentLink2Description: Datasheet; ComponentLink2URL: https://katalog.we-online.de/pbs/datasheet/74477824.pdf; Published Date: September 2018; Publisher: Wurth Elektronik; Size: 7332; Operating Temperature: -40 to 125 degC; Mounting Technology: SMT; Packaging: Tape and Reel
footprint WE-PD_7332_Metal base
pins: 1, 2

## 744778001
designator L?, comment 1 uH, 5.37 A
WE-PD SMT Shielded Power Inductor, size 7332, 1 uH, 5.37 A; Part Number: 744778001; Rated Current: 5.37 A; Inductance: 1 uH; DC Resistance max.: 0.012 Ohm; Self Resonant Frequency: 115 MHz; ComponentLink1Description: Manufacturer; ComponentLink1URL: http://www.we-online.de; ComponentLink2Description: Datasheet; ComponentLink2URL: https://katalog.we-online.de/pbs/datasheet/744778001.pdf; Published Date: September 2018; Publisher: Wurth Elektronik; Size: 7332; Operating Temperature: -40 to 125 degC; Mounting Technology: SMT; Packaging: Tape and Reel
footprint WE-PD_7332_Metal base
pins: 1, 2

## 744778002
designator L?, comment 2.2 uH, 4.02 A
WE-PD SMT Shielded Power Inductor, size 7332, 2.2 uH, 4.02 A; Part Number: 744778002; Rated Current: 4.02 A; Inductance: 2.2 uH; DC Resistance max.: 0.02 Ohm; Self Resonant Frequency: 67 MHz; ComponentLink1Description: Manufacturer; ComponentLink1URL: http://www.we-online.de; ComponentLink2Description: Datasheet; ComponentLink2URL: https://katalog.we-online.de/pbs/datasheet/744778002.pdf; Published Date: September 2018; Publisher: Wurth Elektronik; Size: 7332; Operating Temperature: -40 to 125 degC; Mounting Technology: SMT; Packaging: Tape and Reel
footprint WE-PD_7332_Metal base
pins: 1, 2

## 744778003
designator L?, comment 3.3 uH, 3.1 A
WE-PD SMT Shielded Power Inductor, size 7332, 3.3 uH, 3.1 A; Part Number: 744778003; Rated Current: 3.1 A; Inductance: 3.3 uH; DC Resistance max.: 0.032 Ohm; Self Resonant Frequency: 61 MHz; ComponentLink1Description: Manufacturer; ComponentLink1URL: http://www.we-online.de; ComponentLink2Description: Datasheet; ComponentLink2URL: https://katalog.we-online.de/pbs/datasheet/744778003.pdf; Published Date: September 2018; Publisher: Wurth Elektronik; Size: 7332; Operating Temperature: -40 to 125 degC; Mounting Technology: SMT; Packaging: Tape and Reel
footprint WE-PD_7332_Metal base
pins: 1, 2

## 744778233
designator L?, comment 330 uH, 0.32 A
WE-PD SMT Shielded Power Inductor, size 7332, 330 uH, 0.32 A; Part Number: 744778233; Rated Current: 0.32 A; Inductance: 330 uH; DC Resistance max.: 2.62 Ohm; Self Resonant Frequency: 4.8 MHz; ComponentLink1Description: Manufacturer; ComponentLink1URL: http://www.we-online.de; ComponentLink2Description: Datasheet; ComponentLink2URL: https://katalog.we-online.de/pbs/datasheet/744778233.pdf; Published Date: September 2018; Publisher: Wurth Elektronik; Size: 7332; Operating Temperature: -40 to 125 degC; Mounting Technology: SMT; Packaging: Tape and Reel
footprint WE-PD_7332_Metal base
pins: 1, 2


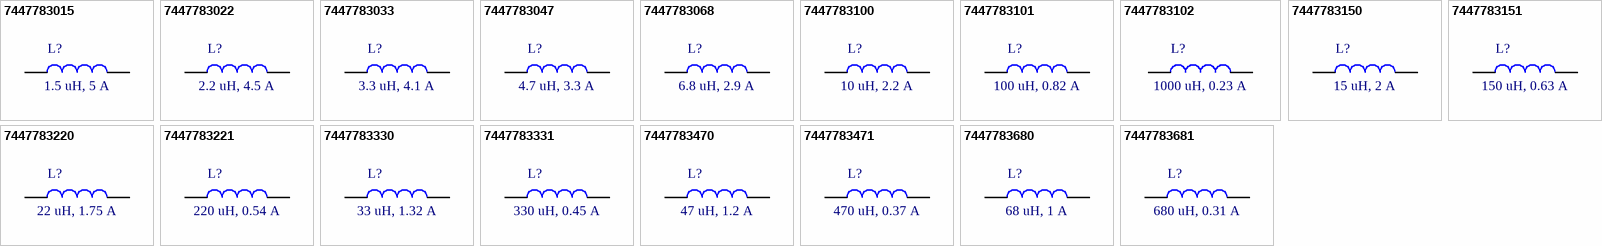
[diagram p10: symbols 7447783015 to 7447783681]

## 7447783015
designator L?, comment 1.5 uH, 5 A
WE-PD SMT Shielded Power Inductor, size 7332, 1.5 uH, 5 A; Part Number: 7447783015; Rated Current: 5 A; Inductance: 1.5 uH; DC Resistance max.: 0.015 Ohm; Self Resonant Frequency: 73 MHz; ComponentLink1Description: Manufacturer; ComponentLink1URL: http://www.we-online.de; ComponentLink2Description: Datasheet; ComponentLink2URL: https://katalog.we-online.de/pbs/datasheet/7447783015.pdf; Published Date: September 2018; Publisher: Wurth Elektronik; Size: 7332; Operating Temperature: -40 to 125 degC; Mounting Technology: SMT; Packaging: Tape and Reel
footprint WE-PD_7332_Clip
pins: 1, 2

## 7447783022
designator L?, comment 2.2 uH, 4.5 A
WE-PD SMT Shielded Power Inductor, size 7332, 2.2 uH, 4.5 A; Part Number: 7447783022; Rated Current: 4.5 A; Inductance: 2.2 uH; DC Resistance max.: 0.019 Ohm; Self Resonant Frequency: 62 MHz; ComponentLink1Description: Manufacturer; ComponentLink1URL: http://www.we-online.de; ComponentLink2Description: Datasheet; ComponentLink2URL: https://katalog.we-online.de/pbs/datasheet/7447783022.pdf; Published Date: September 2018; Publisher: Wurth Elektronik; Size: 7332; Operating Temperature: -40 to 125 degC; Mounting Technology: SMT; Packaging: Tape and Reel
footprint WE-PD_7332_Clip
pins: 1, 2

## 7447783033
designator L?, comment 3.3 uH, 4.1 A
WE-PD SMT Shielded Power Inductor, size 7332, 3.3 uH, 4.1 A; Part Number: 7447783033; Rated Current: 4.1 A; Inductance: 3.3 uH; DC Resistance max.: 0.024 Ohm; Self Resonant Frequency: 51 MHz; ComponentLink1Description: Manufacturer; ComponentLink1URL: http://www.we-online.de; ComponentLink2Description: Datasheet; ComponentLink2URL: https://katalog.we-online.de/pbs/datasheet/7447783033.pdf; Published Date: September 2018; Publisher: Wurth Elektronik; Size: 7332; Operating Temperature: -40 to 125 degC; Mounting Technology: SMT; Packaging: Tape and Reel
footprint WE-PD_7332_Clip
pins: 1, 2

## 7447783047
designator L?, comment 4.7 uH, 3.3 A
WE-PD SMT Shielded Power Inductor, size 7332, 4.7 uH, 3.3 A; Part Number: 7447783047; Rated Current: 3.3 A; Inductance: 4.7 uH; DC Resistance max.: 0.035 Ohm; Self Resonant Frequency: 38 MHz; ComponentLink1Description: Manufacturer; ComponentLink1URL: http://www.we-online.de; ComponentLink2Description: Datasheet; ComponentLink2URL: https://katalog.we-online.de/pbs/datasheet/7447783047.pdf; Published Date: September 2018; Publisher: Wurth Elektronik; Size: 7332; Operating Temperature: -40 to 125 degC; Mounting Technology: SMT; Packaging: Tape and Reel
footprint WE-PD_7332_Clip
pins: 1, 2

## 7447783068
designator L?, comment 6.8 uH, 2.9 A
WE-PD SMT Shielded Power Inductor, size 7332, 6.8 uH, 2.9 A; Part Number: 7447783068; Rated Current: 2.9 A; Inductance: 6.8 uH; DC Resistance max.: 0.041 Ohm; Self Resonant Frequency: 35 MHz; ComponentLink1Description: Manufacturer; ComponentLink1URL: http://www.we-online.de; ComponentLink2Description: Datasheet; ComponentLink2URL: https://katalog.we-online.de/pbs/datasheet/7447783068.pdf; Published Date: September 2018; Publisher: Wurth Elektronik; Size: 7332; Operating Temperature: -40 to 125 degC; Mounting Technology: SMT; Packaging: Tape and Reel
footprint WE-PD_7332_Clip
pins: 1, 2

## 7447783100
designator L?, comment 10 uH, 2.2 A
WE-PD SMT Shielded Power Inductor, size 7332, 10 uH, 2.2 A; Part Number: 7447783100; Rated Current: 2.2 A; Inductance: 10 uH; DC Resistance max.: 0.068 Ohm; Self Resonant Frequency: 30 MHz; ComponentLink1Description: Manufacturer; ComponentLink1URL: http://www.we-online.de; ComponentLink2Description: Datasheet; ComponentLink2URL: https://katalog.we-online.de/pbs/datasheet/7447783100.pdf; Published Date: September 2018; Publisher: Wurth Elektronik; Size: 7332; Operating Temperature: -40 to 125 degC; Mounting Technology: SMT; Packaging: Tape and Reel
footprint WE-PD_7332_Clip
pins: 1, 2

## 7447783101
designator L?, comment 100 uH, 0.82 A
WE-PD SMT Shielded Power Inductor, size 7332, 100 uH, 0.82 A; Part Number: 7447783101; Rated Current: 0.82 A; Inductance: 100 uH; DC Resistance max.: 0.45 Ohm; Self Resonant Frequency: 7.8 MHz; ComponentLink1Description: Manufacturer; ComponentLink1URL: http://www.we-online.de; ComponentLink2Description: Datasheet; ComponentLink2URL: https://katalog.we-online.de/pbs/datasheet/7447783101.pdf; Published Date: September 2018; Publisher: Wurth Elektronik; Size: 7332; Operating Temperature: -40 to 125 degC; Mounting Technology: SMT; Packaging: Tape and Reel
footprint WE-PD_7332_Clip
pins: 1, 2

## 7447783102
designator L?, comment 1000 uH, 0.23 A
WE-PD SMT Shielded Power Inductor, size 7332, 1000 uH, 0.23 A; Part Number: 7447783102; Rated Current: 0.23 A; Inductance: 1000 uH; DC Resistance max.: 4.6 Ohm; Self Resonant Frequency: 2.2 MHz; ComponentLink1Description: Manufacturer; ComponentLink1URL: http://www.we-online.de; ComponentLink2Description: Datasheet; ComponentLink2URL: https://katalog.we-online.de/pbs/datasheet/7447783102.pdf; Published Date: September 2018; Publisher: Wurth Elektronik; Size: 7332; Operating Temperature: -40 to 125 degC; Mounting Technology: SMT; Packaging: Tape and Reel
footprint WE-PD_7332_Clip
pins: 1, 2

## 7447783150
designator L?, comment 15 uH, 2 A
WE-PD SMT Shielded Power Inductor, size 7332, 15 uH, 2 A; Part Number: 7447783150; Rated Current: 2 A; Inductance: 15 uH; DC Resistance max.: 0.085 Ohm; Self Resonant Frequency: 23 MHz; ComponentLink1Description: Manufacturer; ComponentLink1URL: http://www.we-online.de; ComponentLink2Description: Datasheet; ComponentLink2URL: https://katalog.we-online.de/pbs/datasheet/7447783150.pdf; Published Date: September 2018; Publisher: Wurth Elektronik; Size: 7332; Operating Temperature: -40 to 125 degC; Mounting Technology: SMT; Packaging: Tape and Reel
footprint WE-PD_7332_Clip
pins: 1, 2

## 7447783151
designator L?, comment 150 uH, 0.63 A
WE-PD SMT Shielded Power Inductor, size 7332, 150 uH, 0.63 A; Part Number: 7447783151; Rated Current: 0.63 A; Inductance: 150 uH; DC Resistance max.: 0.75 Ohm; Self Resonant Frequency: 6.25 MHz; ComponentLink1Description: Manufacturer; ComponentLink1URL: http://www.we-online.de; ComponentLink2Description: Datasheet; ComponentLink2URL: https://katalog.we-online.de/pbs/datasheet/7447783151.pdf; Published Date: September 2018; Publisher: Wurth Elektronik; Size: 7332; Operating Temperature: -40 to 125 degC; Mounting Technology: SMT; Packaging: Tape and Reel
footprint WE-PD_7332_Clip
pins: 1, 2

## 7447783220
designator L?, comment 22 uH, 1.75 A
WE-PD SMT Shielded Power Inductor, size 7332, 22 uH, 1.75 A; Part Number: 7447783220; Rated Current: 1.75 A; Inductance: 22 uH; DC Resistance max.: 0.115 Ohm; Self Resonant Frequency: 18 MHz; ComponentLink1Description: Manufacturer; ComponentLink1URL: http://www.we-online.de; ComponentLink2Description: Datasheet; ComponentLink2URL: https://katalog.we-online.de/pbs/datasheet/7447783220.pdf; Published Date: September 2018; Publisher: Wurth Elektronik; Size: 7332; Operating Temperature: -40 to 125 degC; Mounting Technology: SMT; Packaging: Tape and Reel
footprint WE-PD_7332_Clip
pins: 1, 2

## 7447783221
designator L?, comment 220 uH, 0.54 A
WE-PD SMT Shielded Power Inductor, size 7332, 220 uH, 0.54 A; Part Number: 7447783221; Rated Current: 0.54 A; Inductance: 220 uH; DC Resistance max.: 1.04 Ohm; Self Resonant Frequency: 5 MHz; ComponentLink1Description: Manufacturer; ComponentLink1URL: http://www.we-online.de; ComponentLink2Description: Datasheet; ComponentLink2URL: https://katalog.we-online.de/pbs/datasheet/7447783221.pdf; Published Date: September 2018; Publisher: Wurth Elektronik; Size: 7332; Operating Temperature: -40 to 125 degC; Mounting Technology: SMT; Packaging: Tape and Reel
footprint WE-PD_7332_Clip
pins: 1, 2

## 7447783330
designator L?, comment 33 uH, 1.32 A
WE-PD SMT Shielded Power Inductor, size 7332, 33 uH, 1.32 A; Part Number: 7447783330; Rated Current: 1.32 A; Inductance: 33 uH; DC Resistance max.: 0.165 Ohm; Self Resonant Frequency: 14 MHz; ComponentLink1Description: Manufacturer; ComponentLink1URL: http://www.we-online.de; ComponentLink2Description: Datasheet; ComponentLink2URL: https://katalog.we-online.de/pbs/datasheet/7447783330.pdf; Published Date: September 2018; Publisher: Wurth Elektronik; Size: 7332; Operating Temperature: -40 to 125 degC; Mounting Technology: SMT; Packaging: Tape and Reel
footprint WE-PD_7332_Clip
pins: 1, 2

## 7447783331
designator L?, comment 330 uH, 0.45 A
WE-PD SMT Shielded Power Inductor, size 7332, 330 uH, 0.45 A; Part Number: 7447783331; Rated Current: 0.45 A; Inductance: 330 uH; DC Resistance max.: 1.43 Ohm; Self Resonant Frequency: 4 MHz; ComponentLink1Description: Manufacturer; ComponentLink1URL: http://www.we-online.de; ComponentLink2Description: Datasheet; ComponentLink2URL: https://katalog.we-online.de/pbs/datasheet/7447783331.pdf; Published Date: September 2018; Publisher: Wurth Elektronik; Size: 7332; Operating Temperature: -40 to 125 degC; Mounting Technology: SMT; Packaging: Tape and Reel
footprint WE-PD_7332_Clip
pins: 1, 2

## 7447783470
designator L?, comment 47 uH, 1.2 A
WE-PD SMT Shielded Power Inductor, size 7332, 47 uH, 1.2 A; Part Number: 7447783470; Rated Current: 1.2 A; Inductance: 47 uH; DC Resistance max.: 0.21 Ohm; Self Resonant Frequency: 11.6 MHz; ComponentLink1Description: Manufacturer; ComponentLink1URL: http://www.we-online.de; ComponentLink2Description: Datasheet; ComponentLink2URL: https://katalog.we-online.de/pbs/datasheet/7447783470.pdf; Published Date: September 2018; Publisher: Wurth Elektronik; Size: 7332; Operating Temperature: -40 to 125 degC; Mounting Technology: SMT; Packaging: Tape and Reel
footprint WE-PD_7332_Clip
pins: 1, 2

## 7447783471
designator L?, comment 470 uH, 0.37 A
WE-PD SMT Shielded Power Inductor, size 7332, 470 uH, 0.37 A; Part Number: 7447783471; Rated Current: 0.37 A; Inductance: 470 uH; DC Resistance max.: 2.04 Ohm; Self Resonant Frequency: 3.3 MHz; ComponentLink1Description: Manufacturer; ComponentLink1URL: http://www.we-online.de; ComponentLink2Description: Datasheet; ComponentLink2URL: https://katalog.we-online.de/pbs/datasheet/7447783471.pdf; Published Date: September 2018; Publisher: Wurth Elektronik; Size: 7332; Operating Temperature: -40 to 125 degC; Mounting Technology: SMT; Packaging: Tape and Reel
footprint WE-PD_7332_Clip
pins: 1, 2

## 7447783680
designator L?, comment 68 uH, 1 A
WE-PD SMT Shielded Power Inductor, size 7332, 68 uH, 1 A; Part Number: 7447783680; Rated Current: 1 A; Inductance: 68 uH; DC Resistance max.: 0.3 Ohm; Self Resonant Frequency: 9.3 MHz; ComponentLink1Description: Manufacturer; ComponentLink1URL: http://www.we-online.de; ComponentLink2Description: Datasheet; ComponentLink2URL: https://katalog.we-online.de/pbs/datasheet/7447783680.pdf; Published Date: September 2018; Publisher: Wurth Elektronik; Size: 7332; Operating Temperature: -40 to 125 degC; Mounting Technology: SMT; Packaging: Tape and Reel
footprint WE-PD_7332_Clip
pins: 1, 2